# EAGLE library part OPAMP_PA340 (library wheat)
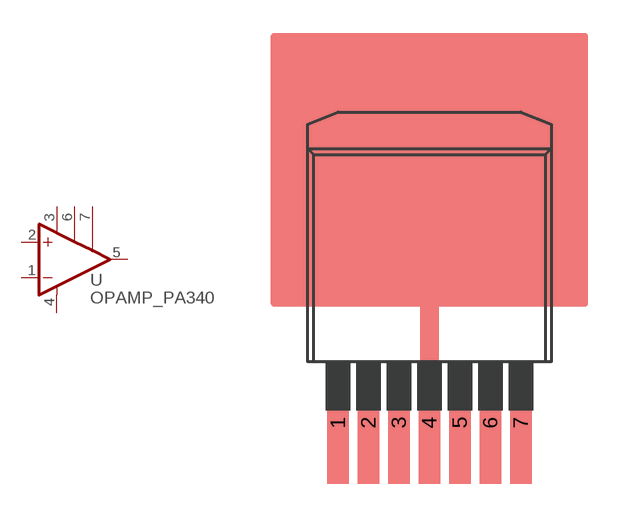
[diagram p282: symbol with the pads of DDPAK7; footprint DDPAK7]

Designator prefix U

## OPAMP_PA340  [DDPAK7]
1  -IN  in
2  +IN  in
3  V+  pwr
4  V-  pwr
5  OUT  out
6  CC1  pwr
7  CC2  pwr

## Footprint DDPAK7 (pad centres in mm)
smd 0.889 x 5.08: 1 -3.81,-6.985; 2 -2.54,-6.985; 3 -1.27,-6.985; 4 0,-6.985; 5 1.27,-6.985; 6 2.54,-6.985; 7 3.81,-6.985